# EAGLE library part TSL1401CL (library arducorder-mini)
TAOS TSL1401CL 128-Pixel Linear CMOS Array with Hold, Analog Out, 3-5V Supply
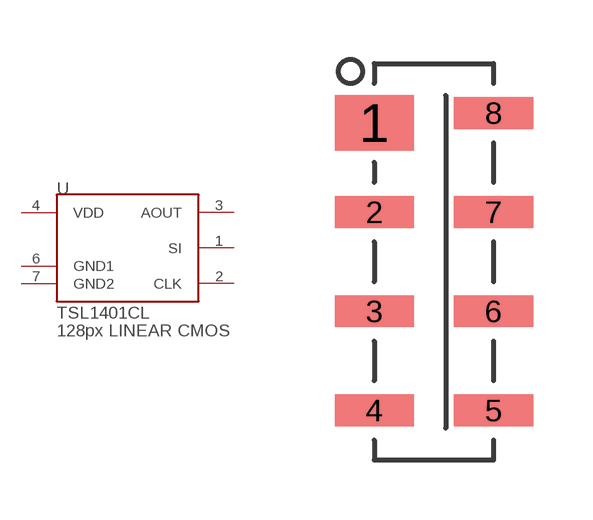
[diagram p31: symbol with the pads of TSL1401CL; footprint TSL1401CL]

Designator prefix -

## TSL1401CL  [TSL1401CL]
1  SI
2  CLK
3  AOUT
4  VDD
6  GND1
7  GND2

## Footprint TSL1401CL (pad centres in mm)
smd 2 x 1.4: 1 -1.5,3.5
smd 2 x 0.8: 2 -1.5,1.25; 3 -1.5,-1.25; 4 -1.5,-3.75; 5 1.5,-3.75; 6 1.5,-1.25; 7 1.5,1.25; 8 1.5,3.75